# Altium schematic symbol library mos.SchLib: 3 symbols
Pins are listed as number, name and electrical type; pins without a type are passive.

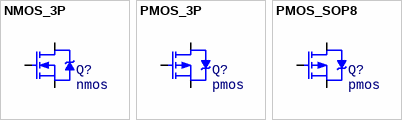
[diagram p0: symbols NMOS_3P to PMOS_SOP8]

## NMOS_3P
designator Q?, comment nmos
MOSFET; value: nmos
footprint _SOT23-3
footprint _TO-252AA
pins: 1 G, 2 S, 3 D

## PMOS_3P
designator Q?, comment pmos
MOSFET; value: pmos
footprint _TO-252AA
footprint _SOT23-3
pins: 1 G, 2 S, 3 D

## PMOS_SOP8
designator Q?, comment pmos
MOSFET; value: pmos
footprint _SOP_E150_8
pins: 1 S, 2 S, 3 S, 4 G, 5 D, 6 D, 7 D, 8 D